# EAGLE library part MA17-2 (library we-con)
Pin Header
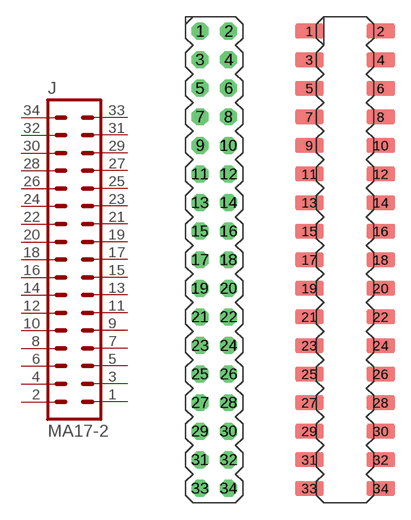
[diagram p18: symbol with the pads of MA17-2; footprints MA17-2, MA17-2_SMD]

Designator prefix J

## MA17-2  [MA17-2]
1  1  pas
2  2  pas
3  3  pas
4  4  pas
5  5  pas
6  6  pas
7  7  pas
8  8  pas
9  9  pas
10  10  pas
11  11  pas
12  12  pas
13  13  pas
14  14  pas
15  15  pas
16  16  pas
17  17  pas
18  18  pas
19  19  pas
20  20  pas
21  21  pas
22  22  pas
23  23  pas
24  24  pas
25  25  pas
26  26  pas
27  27  pas
28  28  pas
29  29  pas
30  30  pas
31  31  pas
32  32  pas
33  33  pas
34  34  pas

## MA17-2A  [MA17-2_SMD]
Pads as for MA17-2

## Footprint MA17-2 (pad centres in mm)
drill 1 octagon: 1 -1.27,20.32; 2 1.27,20.32; 3 -1.27,17.78; 4 1.27,17.78; 5 -1.27,15.24; 6 1.27,15.24; 7 -1.27,12.7; 8 1.27,12.7; 9 -1.27,10.16; 10 1.27,10.16; 11 -1.27,7.62; 12 1.27,7.62; 13 -1.27,5.08; 14 1.27,5.08; 15 -1.27,2.54; 16 1.27,2.54; 17 -1.27,0; 18 1.27,0; 19 -1.27,-2.54; 20 1.27,-2.54; 21 -1.27,-5.08; 22 1.27,-5.08; 23 -1.27,-7.62; 24 1.27,-7.62; 25 -1.27,-10.16; 26 1.27,-10.16; 27 -1.27,-12.7; 28 1.27,-12.7; 29 -1.27,-15.24; 30 1.27,-15.24; 31 -1.27,-17.78; 32 1.27,-17.78; 33 -1.27,-20.32; 34 1.27,-20.32

## Footprint MA17-2_SMD (pad centres in mm)
smd 2.54 x 1.27: 1 -3.175,20.32; 2 3.175,20.32; 3 -3.175,17.78; 4 3.175,17.78; 5 -3.175,15.24; 6 3.175,15.24; 7 -3.175,12.7; 8 3.175,12.7; 9 -3.175,10.16; 10 3.175,10.16; 11 -3.175,7.62; 12 3.175,7.62; 13 -3.175,5.08; 14 3.175,5.08; 15 -3.175,2.54; 16 3.175,2.54; 17 -3.175,0; 18 3.175,0; 19 -3.175,-2.54; 20 3.175,-2.54; 21 -3.175,-5.08; 22 3.175,-5.08; 23 -3.175,-7.62; 24 3.175,-7.62; 25 -3.175,-10.16; 26 3.175,-10.16; 27 -3.175,-12.7; 28 3.175,-12.7; 29 -3.175,-15.24; 30 3.175,-15.24; 31 -3.175,-17.78; 32 3.175,-17.78; 33 -3.175,-20.32; 34 3.175,-20.32